# EAGLE library part EL30_2 (library Trafo)
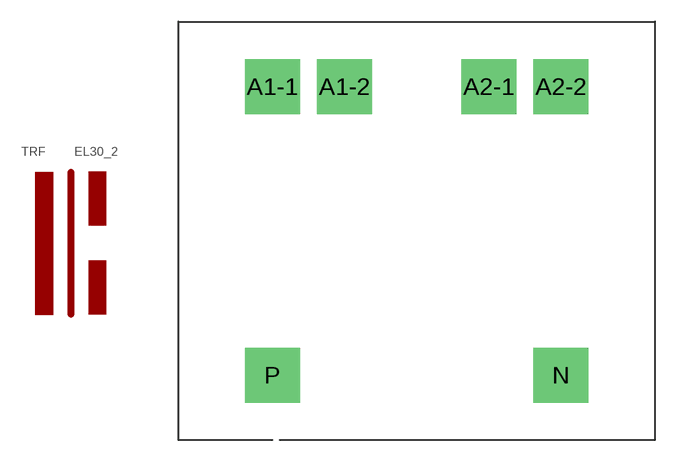
[diagram p8: symbol with the pads of EL30TRF; footprint EL30TRF]

Designator prefix TRF

## EL30_2  [EL30TRF]
A1-1  AC1-1
A1-2  AC1-2
A2-1  AC2-1
A2-2  AC2-2
N  N
P  P

## Footprint EL30TRF (pad centres in mm)
drill 1 pad 3.81 square: A1-1 3.94,22.71; A1-2 8.94,22.71; A2-1 18.94,22.71; A2-2 23.94,22.71; N 23.94,2.71; P 3.94,2.71